# Altium footprint library KEYSTONE-3012.PcbLib: 1 footprints
Each footprint in its own frame and in the unit in brackets; x right, y up, seen from the top. Pads: shape width x height; smd on the part's side, far side on the other; paste and mask are expansions set on the pad; w line width, h text height; cw(c..) or ccw(c..) is an arc to the next point about the centre after c.
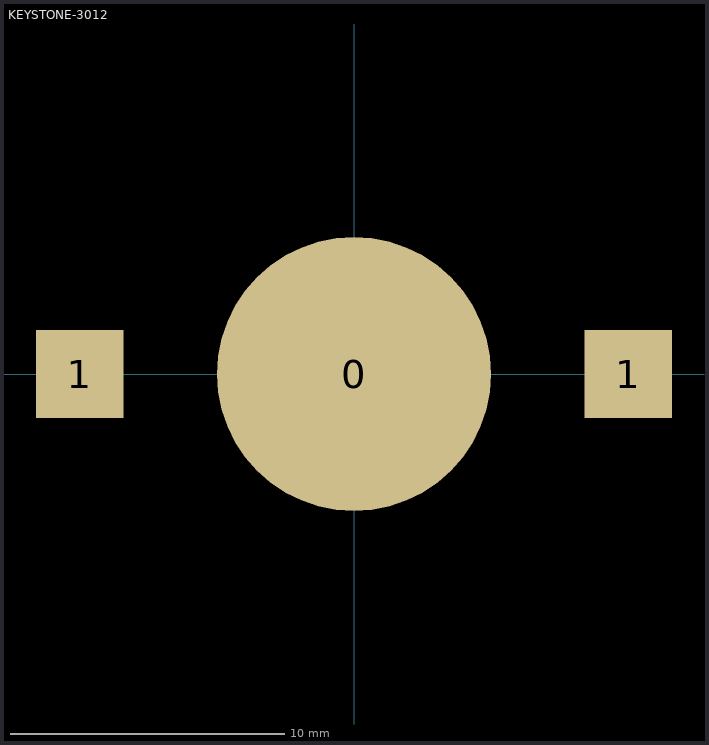
[diagram p0: the footprint, top view; thin cyan lines are the x and y axes]

## KEYSTONE-3012 [mm] "KEYSTONE-3012 16MM COIN CELL HOLDER"
height 4
pads (3):
  round 10 smd paste+0 mask+3: 0(0,0)
  rect 3.2x3.2 smd: 1(-10,0) 1(10,0)
3D body "keystone-PN3012TR.STEP": height 3.95, standoff -0.01, extent -11.608,-8.738 11.608,6.35